# EAGLE library part GP2Y1010AU (library gp2y1010au)
GP2Y1010AU0F is a dust sensor by optical sensing system. An infrared emitting diode (IRED) and an phototransistor are diagonally arranged into this device. It detects the reflected light of dust in air. Especially, it is effective to detect very fine particle like the cigarette smoke. In addition it can distinguish smoke from house dust by pulse pattern of output voltage. 1. Compact, thin package (46.0 × 30.0 × 17.6 mm) 2. Low consumption current (Icc: MAX. 20 mA) 3. The presence of dust can be detected by the photometry of only one pulse
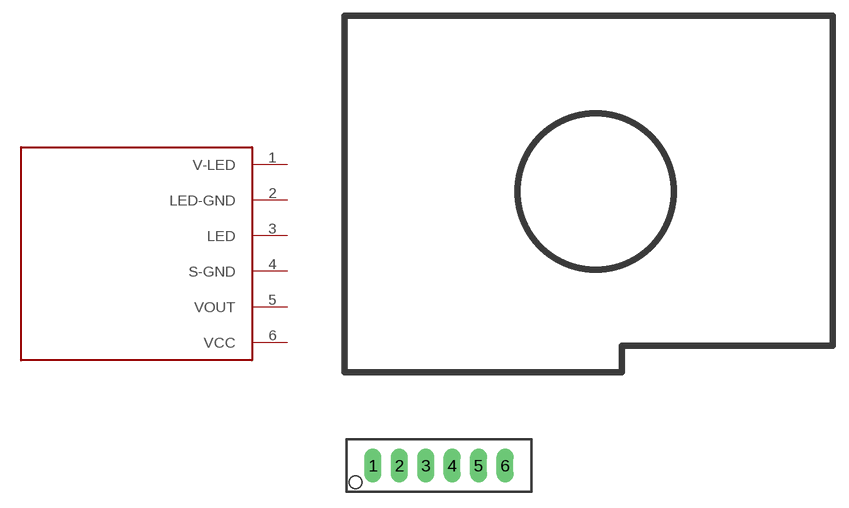
[diagram p0: symbol with the pads of GP2Y1010AU; footprint GP2Y1010AU]

Designator prefix -

## GP2Y1010AU  [GP2Y1010AU]
1  V-LED  pwr
2  LED-GND  pwr
3  LED  in
4  S-GND  pwr
5  VOUT  out
6  VCC  pwr

## Footprint GP2Y1010AU (pad centres in mm)
drill 1.1 long: 1 -27.94,5.08; 2 -25.4,5.08; 3 -22.86,5.08; 4 -20.32,5.08; 5 -17.78,5.08; 6 -15.24,5.08
hole 15 at -6.545,31.398